# Altium footprint library TO252.PcbLib: 1 footprints
Each footprint in its own frame and in the unit in brackets; x right, y up, seen from the top. Pads: shape width x height; smd on the part's side, far side on the other; paste and mask are expansions set on the pad; w line width, h text height; cw(c..) or ccw(c..) is an arc to the next point about the centre after c.
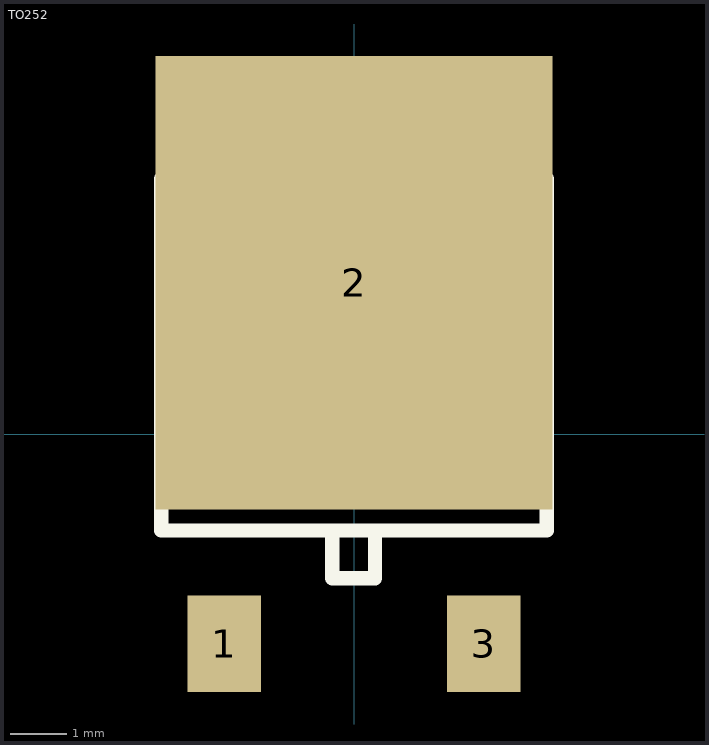
[diagram p0: the footprint, top view; thin cyan lines are the x and y axes]

## TO252 [mm]
height 2.38
pads (3):
  rect 1.3x1.7 smd: 1(-2.285,-3.7) 3(2.285,-3.7)
  rect 7x8 smd: 2(0,2.667)
Top Overlay:
  lines w0.254: -0.38,-1.7 -0.38,-2.54 0.37,-2.54 0.37,-1.7 ; -3.4,-1.7 3.4,-1.7 3.4,4.5 -3.4,4.5 -3.4,-1.7
3D body: height 2.3, standoff -0.01, extent -3.33,-4.05 3.25,5.65